# Altium schematic symbol library Misc.SchLib: 11 symbols
Pins are listed as number, name and electrical type; pins without a type are passive.

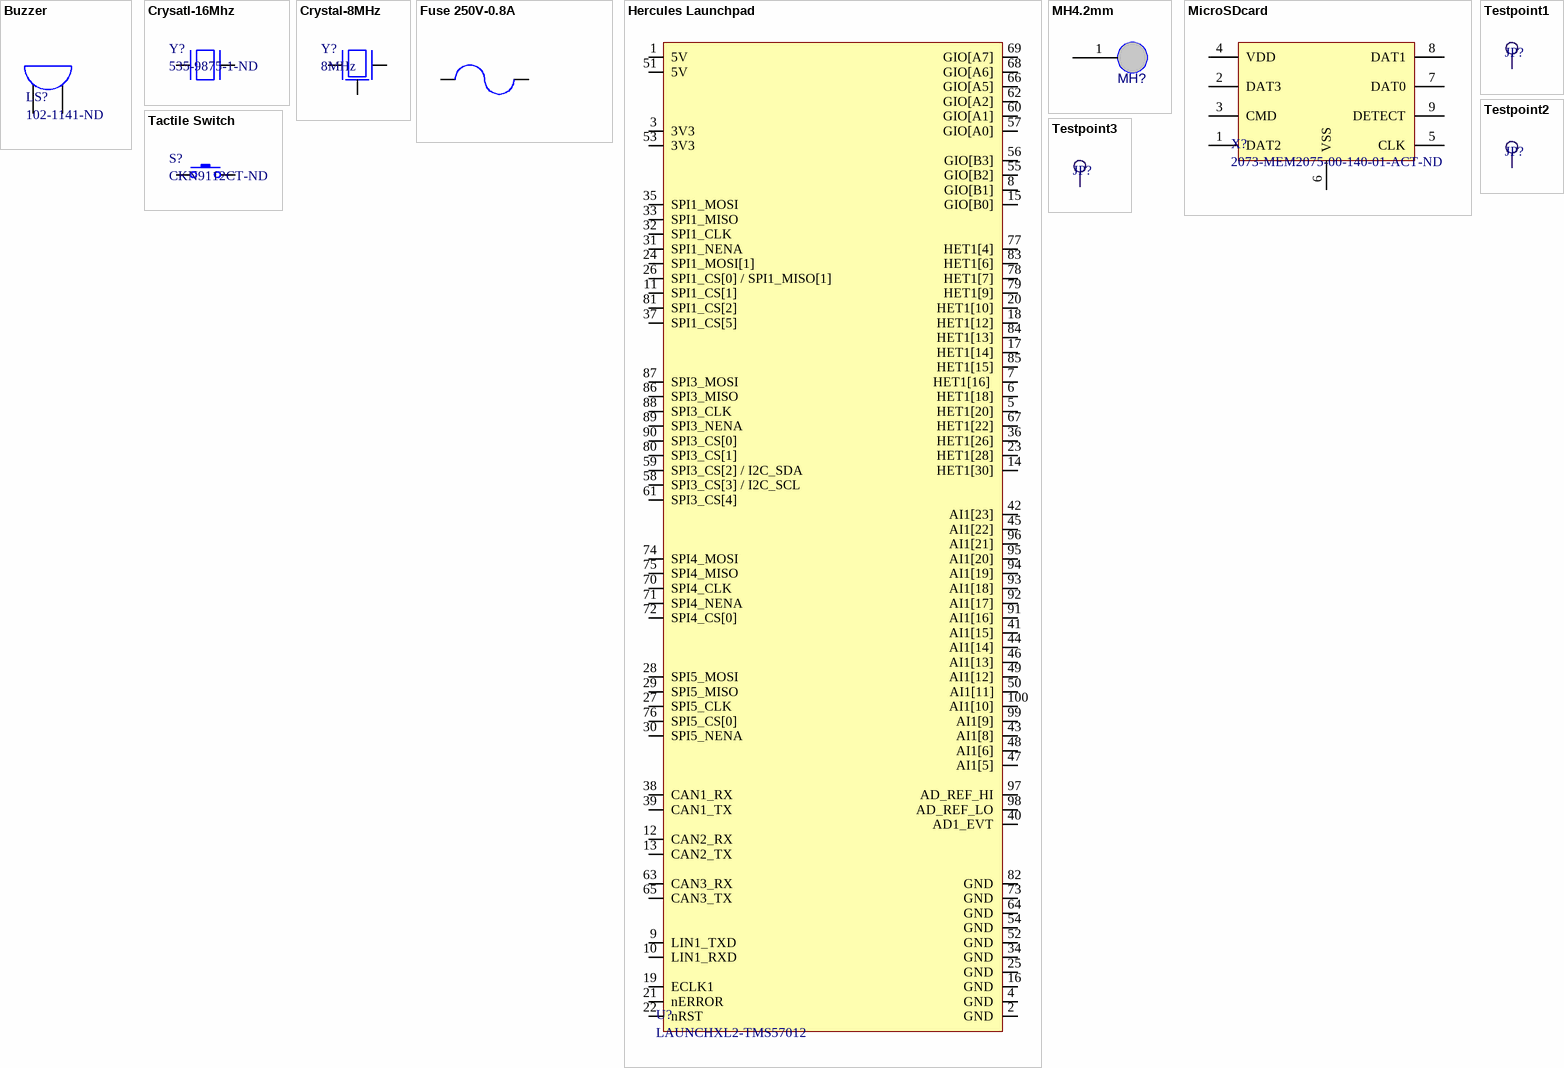
[diagram p0: symbols Buzzer to Testpoint3]

## Buzzer
designator LS?, comment 102-1141-ND
AUDIO PIEZO TRANSDUCER 30V TH; Manufacturer: CUI; Voltage Rating: 10V; Operating Supply Current: 8mA; Self Resonant Frequency: 2kHz; Capacitance: 28nF; Washable: No; Supplier 1: Digi-Key; Manufacturer Part Number: CEP-1116; Stock 1: 11267; Pricing 1: 1=1.91, 10=1.588, 25=1.468, 50=1.3806, 100=1.2963, 500=1.11268, 1000=1.0621 (USD); Mount: Through Hole; Case/Package: Radial; Min Operating Temperature: -30°C; Max Operating Temperature: 85°C; Packaging: Bulk; Termination: PC Pins; Diameter: 30mm; Height: 10.5mm; Lead Free: Lead Free; Supplier Part Number 1: 102-1141-ND
footprint Buzzer
pins: 1, 2

## Crysatl-16Mhz
designator Y?, comment 535-9875-1-ND
CRYSTAL 16.0000MHZ 18PF SMD; Manufacturer: Abracon; Manufacturer Part Number: ABLS2-16.000MHZ-D4Y-T; Frequency: 16MHz; Frequency Tolerance: 30ppm; ESR (Equivalent Series Resistance): 40R; Supplier 1: Digi-Key; Stock 1: 11099; Pricing 1: 1=0.46, 10=0.385, 50=0.3466, 100=0.308, 500=0.2926 (USD); Mount: Surface Mount; Min Operating Temperature: -40°C; Max Operating Temperature: 85°C; Package Quantity: 1000; Load Capacitance: 18pF; Packaging: Tape and Reel; Tolerance: 30ppm; Frequency Stability: 30ppm; Termination: SMD/SMT; Series Resistance: 40R; Length: 11.05mm; Height: 0.13inch; Width: 0.185inch; Depth: 4.8mm; REACH SVHC: Unknown; Lead Free: Lead Free; ComponentLink1URL: https://abracon.com/Resonators/ABLS2.pdf?src-supplier=Digi-Key; ComponentLink1Description: https://abracon.com/Resonators/ABLS2.pdf?src-supplier=Digi-Key; ComponentLink2URL: http://www.abracon.com/Resonators/ABLS2.pdf?src-supplier=Digi-Key; ComponentLink2Description: http://www.abracon.com/Resonators/ABLS2.pdf?src-supplier=Digi-Key; ComponentLink3URL: https://www.verical.com/server-webapp/html/getDatasheet?partID=719900&src-supplier=Verical; ComponentLink3Description: https://www.verical.com/server-webapp/html/getDatasheet?partID=719900&src-supplier=Verical; Supplier Part Number 1: 535-9875-6-ND
footprint CRYSTAL-ABLS2
pins: 1, 2

## Crystal-8MHz
designator Y?, comment 8MHz
CRYSTAL 8.0000MHZ 10PF SMD; Manufacturer: Abracon; Manufacturer Part Number: ABM3B-8.000MHZ-10-1-U-T; Frequency Tolerance: 10ppm; ESR (Equivalent Series Resistance): 200R; Supplier 1: Digi-Key; Stock 1: 23188; Pricing 1: 1=1.14, 10=1.012, 50=0.946, 100=0.836, 500=0.792 (USD); Mount: Surface Mount; Case/Package: SMD/SMT; Number of Pins: 4; Min Operating Temperature: -10°C; Max Operating Temperature: 60°C; Frequency: 8MHz; Load Capacitance: 10pF; Packaging: Tape and Reel; Series Resistance: 200R; Frequency Stability: 10ppm; Length: 0.197inch; Height: 0.043inch; Width: 0.126inch; Depth: 3.2mm; REACH SVHC: No SVHC; Lead Free: Lead Free; ComponentLink1URL: https://abracon.com/Resonators/abm3b.pdf?src-supplier=Digi-Key; ComponentLink1Description: https://abracon.com/Resonators/abm3b.pdf?src-supplier=Digi-Key; ComponentLink2URL: http://www.abracon.com/Resonators/abm3b.pdf?src-supplier=Future+Electronics; ComponentLink2Description: http://www.abracon.com/Resonators/abm3b.pdf?src-supplier=Future+Electronics; Supplier Part Number 1: 535-9721-6-ND
footprint CRYSTAL-ABM3B-8.000MHZ
pins: 1, 2, 3

## Fuse 250V-0.8A
designator F?, comment 507-2258-1-ND  Supplier Part Number 1: 507-2258-6-ND
FUSE SMT 3912 FAST 250V 800MA; Manufacturer: Bel; Manufacturer Part Number: 0678D0800-02; Fuse Type: Board Mount (Cartridge Style Excluded); Voltage Rating (AC): 350V; DC Cold Resistance: 380mR; Approvals: cURus; Supplier 1: Digi-Key; Stock 1: 1992; Pricing 1: 1=0.91, 5=0.884, 10=0.827, 50=0.684, 100=0.57, 250=0.55576, 500=0.47026, 1000=0.41325 (USD); Mount: Surface Mount; Case/Package: SMD/SMT; Min Operating Temperature: -55°C; Max Operating Temperature: 125°C; Packaging: Tape and Reel; Current Rating: 800mA; Voltage Rating (DC): 250V; ComponentLink1URL: https://media.digikey.com/pdf/Data%20Sheets/Bel%20Fuse%20PDFs/0678D_Series.pdf?src-supplier=Digi-Key; ComponentLink1Description: https://media.digikey.com/pdf/Data%20Sheets/Bel%20Fuse%20PDFs/0678D_Series.pdf?src-supplier=Digi-Key
footprint Fuse-10x3 (Chip Inductor, 2-Leads, Body 9.80x3.10mm, IPC Medium Density)
pins: 1, 2

## Hercules Launchpad
designator U?, comment LAUNCHXL2-TMS57012
LAUNCHPAD TMS570LS12X EVAL BRD; Manufacturer: Texas Instruments; Evaluation Kit: Yes; Number of Bits: 32; Core Architecture: ARM; Supplier 1: Digi-Key; Manufacturer Part Number: LAUNCHXL2-TMS57012; Stock 1: 26; Pricing 1: 1=59.99 (USD); Packaging: Bulk; Package Quantity: 1; REACH SVHC: No SVHC; ComponentLink1URL: http://www.ti.com/tool/LAUNCHXL2-TMS57012?keyMatch=LAUNCHXL2-TMS57012&tisearch=Search-EN&src-supplier=Avnet+Asia; ComponentLink1Description: http://www.ti.com/tool/LAUNCHXL2-TMS57012?keyMatch=LAUNCHXL2-TMS57012&tisearch=Search-EN&src-supplier=Avnet+Asia; ComponentLink2URL: http://www.ti.com/lit/pdf/spnu611?src-supplier=Digi-Key; ComponentLink2Description: http://www.ti.com/lit/pdf/spnu611?src-supplier=Digi-Key; ComponentLink3URL: http://www.ti.com/lit/pdf/spnu611?src-supplier=Mouser; ComponentLink3Description: http://www.ti.com/lit/pdf/spnu611?src-supplier=Mouser; ComponentLink4URL: http://www.ti.com/tool/LAUNCHXL2-TMS57012?keyMatch=LAUNCHXL2-TMS57012&tisearch=Search-EN&src-supplier=Avnet; ComponentLink4Description: http://www.ti.com/tool/LAUNCHXL2-TMS57012?keyMatch=LAUNCHXL2-TMS57012&tisearch=Search-EN&src-supplier=Avnet; Supplier Part Number 1: 296-41109-ND
footprint Hercules
pins: 1 5V, 2 GND, 3 3V3, 4 GND, 5 HET1[20], 6 HET1[18], 7 HET1[16] , 8 GIO[B1], 9 LIN1_TXD, 10 LIN1_RXD, 11 SPI1_CS[1], 12 CAN2_RX, 13 CAN2_TX, 14 HET1[30], 15 GIO[B0], 16 GND, 17 HET1[14], 18 HET1[12], 19 ECLK1, 20 HET1[10], 21 nERROR, 22 nRST, 23 HET1[28], 24 SPI1_MOSI[1], 25 GND, 26 SPI1_CS[0] / SPI1_MISO[1], 27 SPI5_CLK, 28 SPI5_MOSI, 29 SPI5_MISO, 30 SPI5_NENA, 31 SPI1_NENA, 32 SPI1_CLK, 33 SPI1_MISO, 34 GND, 35 SPI1_MOSI, 36 HET1[26], 37 SPI1_CS[5], 38 CAN1_RX, 39 CAN1_TX, 40 AD1_EVT, 41 AI1[15], 42 AI1[23], 43 AI1[8], 44 AI1[14], 45 AI1[22], 46 AI1[13], 47 AI1[5], 48 AI1[6], 49 AI1[12], 50 AI1[11], 51 5V, 52 GND, 53 3V3, 54 GND, 55 GIO[B2], 56 GIO[B3], 57 GIO[A0], 58 SPI3_CS[3] / I2C_SCL, 59 SPI3_CS[2] / I2C_SDA, 60 GIO[A1], 61 SPI3_CS[4], 62 GIO[A2], 63 CAN3_RX, 64 GND, 65 CAN3_TX, 66 GIO[A5], 67 HET1[22], 68 GIO[A6], 69 GIO[A7], 70 SPI4_CLK, 71 SPI4_NENA, 72 SPI4_CS[0], 73 GND, 74 SPI4_MOSI, 75 SPI4_MISO, 76 SPI5_CS[0], 77 HET1[4], 78 HET1[7], 79 HET1[9], 80 SPI3_CS[1], 81 SPI1_CS[2], 82 GND, 83 HET1[6], 84 HET1[13], 85 HET1[15], 86 SPI3_MISO, 87 SPI3_MOSI, 88 SPI3_CLK, 89 SPI3_NENA, 90 SPI3_CS[0], 91 AI1[16], 92 AI1[17], 93 AI1[18], 94 AI1[19], 95 AI1[20], 96 AI1[21], 97 AD_REF_HI, 98 AD_REF_LO, 99 AI1[9], 100 AI1[10]

## MH4.2mm
designator MH?, comment MountingHole  (value not drawn)
Mounting hole, 4.2mm; Case: TH
footprint MH4.2MM (Mounting Hole, 4.2mm)
pins: 1

## MicroSDcard
designator X?, comment 2073-MEM2075-00-140-01-ACT-ND
MICRO SD PUSH-PUSH, SMT, 1.40MM; Manufacturer: Global Connector Technology; Supplier 1: Digi-Key; Manufacturer Part Number: MEM2075-00-140-01-A; Stock 1: 0; Supplier Part Number 1: 2073-MEM2075-00-140-01-ATR-ND
footprint SDcard
pins: 1 DAT2, 2 DAT3, 3 CMD, 4 VDD, 5 CLK, 6 VSS, 7 DAT0, 8 DAT1, 9 DETECT

## Tactile Switch
designator S?, comment CKN9112CT-ND
SWITCH TACTILE SPST-NO 0.05A 12V; Manufacturer: ITT C&K; Manufacturer Part Number: PTS645SM43SMTR92LFS; Mechanical Life: 100000Cycles; Actuator Material: Nylon,Polyamide; Throw Configuration: SPST; Contact Resistance: 100mR; Operating Force: 160gf; Max Current Rating: 50mA; Illumination Type: Non-Illuminated,Illuminated; Switch Function: Off-Mom; Actuator Type: Standard; Actuator Length: 0.85mm; Supplier 1: Digi-Key; Stock 1: 30454; Pricing 1: 1=0.31, 10=0.3, 25=0.29, 50=0.2796, 100=0.2641, 250=0.2486, 500=0.23822 (USD); Mount: Surface Mount; Case/Package: SMD/SMT; Contact Plating: Silver; Contact Material: Silver; Color: Black; Min Operating Temperature: -20°C; Max Operating Temperature: 60°C; Max Voltage Rating (DC): 12V; Packaging: Tape and Reel; Package Quantity: 1; Current Rating: 50mA; Voltage Rating (DC): 12V; Termination: Gull Wing; Orientation: Straight; Length: 6mm; Depth: 9mm; REACH SVHC: No SVHC; Lead Free: Lead Free; ComponentLink1URL: https://www.verical.com/server-webapp/html/getDatasheet?partID=786341&src-supplier=Verical; ComponentLink1Description: https://www.verical.com/server-webapp/html/getDatasheet?partID=786341&src-supplier=Verical; ComponentLink2URL: https://www.ckswitches.com/media/1471/pts645.pdf?src-supplier=Digi-Key; ComponentLink2Description: https://www.ckswitches.com/media/1471/pts645.pdf?src-supplier=Digi-Key; ComponentLink3URL: https://www.verical.com/server-webapp/html/getDatasheet?partID=764615&src-supplier=Verical; ComponentLink3Description: https://www.verical.com/server-webapp/html/getDatasheet?partID=764615&src-supplier=Verical; Supplier Part Number 1: CKN9112DKR-ND
footprint Tactile
pins: 1, 2

## Testpoint1
designator JP?, comment 36-5015CT-ND  (value not drawn)
PC TEST POINT MINIATURE; Manufacturer: Keystone Electronics; Manufacturer Part Number: 5015; Number of Ports: 1; Supplier 1: Digi-Key; Stock 1: 1346769; Pricing 1: 1=0.47, 25=0.382, 100=0.3121, 250=0.28024, 500=0.2675 (USD); Mount: Surface Mount; Contact Material: Bronze; Contact Plating: Silver,Tin,Lead; Color: White; Material: Bronze,Silver; Package Quantity: 1; Packaging: Tape and Reel; Termination: Solder; Orientation: Straight; Length: 2.66mm; Height: 0.06inch; Depth: 1.01mm; Thickness: 0.01inch; REACH SVHC: No SVHC; Lead Free: Lead Free; ComponentLink1URL: http://www.keyelco.com/product-pdf.cfm?p=1353&src-supplier=Digi-Key; ComponentLink1Description: http://www.keyelco.com/product-pdf.cfm?p=1353&src-supplier=Digi-Key; ComponentLink2URL: http://www.farnell.com/datasheets/1756694.pdf?src-supplier=Newark; ComponentLink2Description: http://www.farnell.com/datasheets/1756694.pdf?src-supplier=Newark; ComponentLink3URL: http://keyelco.com/userAssets/file/M65p55.pdf?src-supplier=Allied+Electronics; ComponentLink3Description: http://keyelco.com/userAssets/file/M65p55.pdf?src-supplier=Allied+Electronics; Supplier Part Number 1: 36-5015CT-ND
footprint TP1
pins: 1

## Testpoint2
designator JP?  (value not drawn)
Single layer pad TP
footprint TP2
pins: 1

## Testpoint3
designator JP?  (value not drawn)
Through hole pad TP
footprint TP3
pins: 1